# Altium schematic symbol library flatsat_platform.SchLib: 41 symbols (part 1 of 2)
Pins are listed as number, name and electrical type; pins without a type are passive.

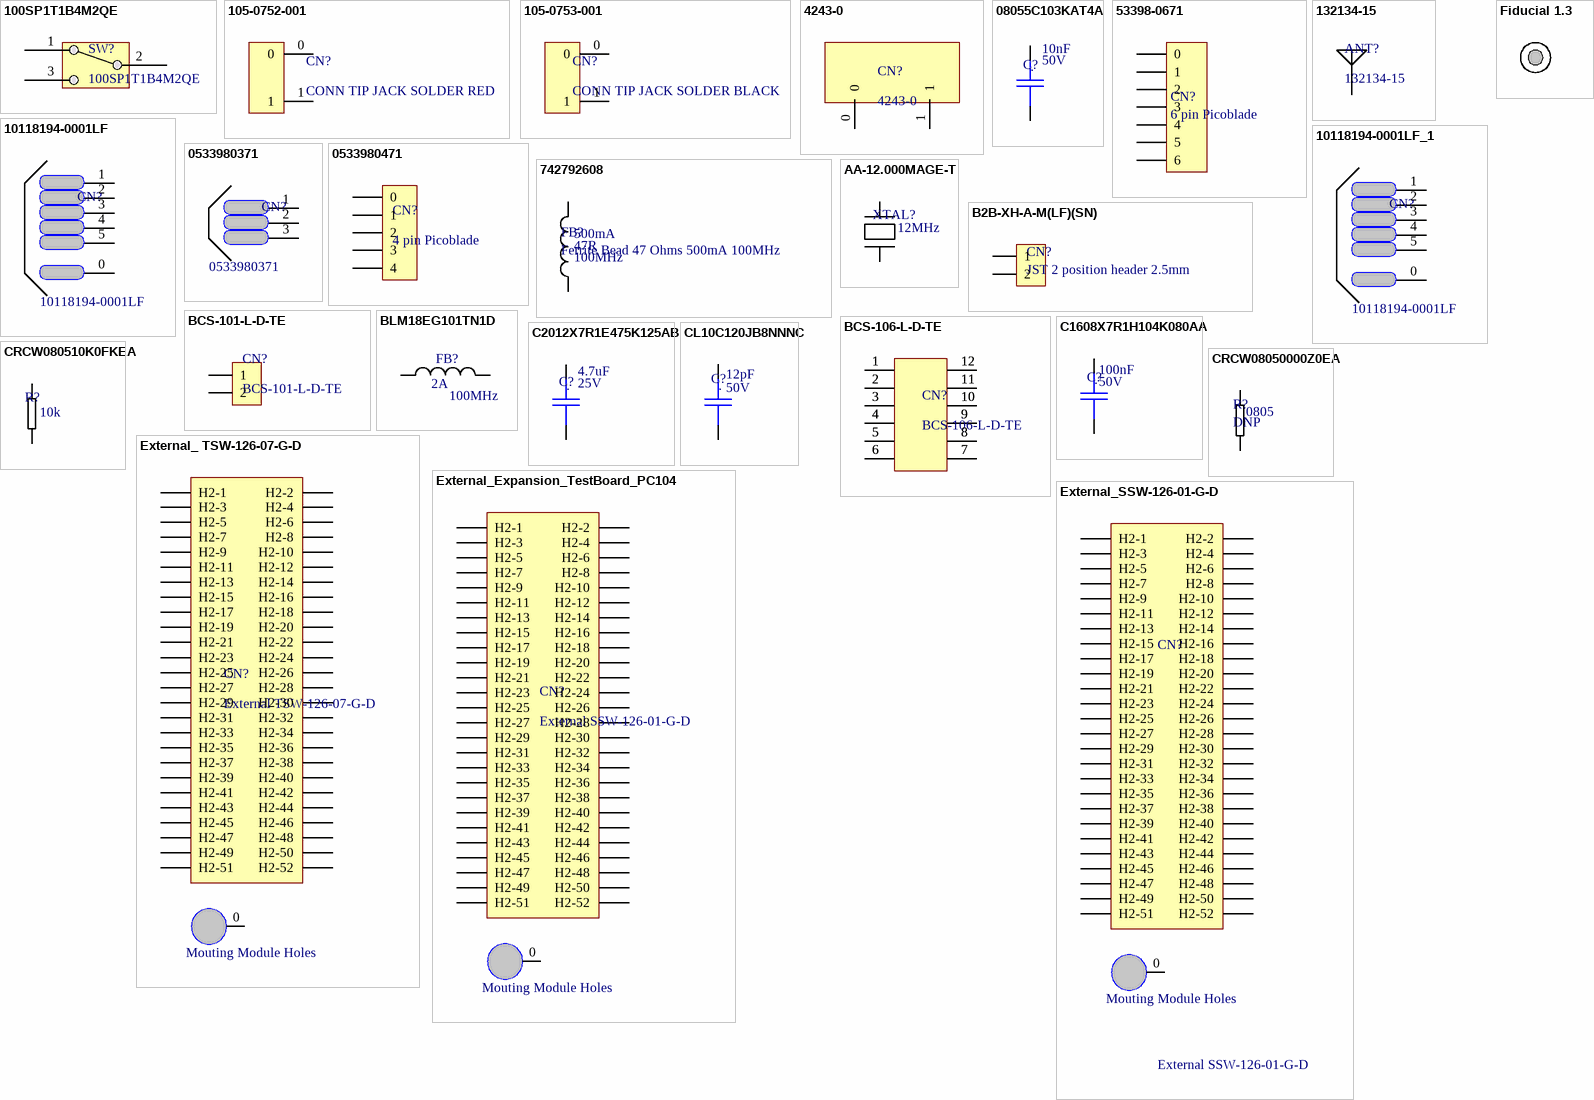
[diagram p0: symbols 100SP1T1B4M2QE to Fiducial 1.3]

## 100SP1T1B4M2QE
designator SW?
E-SWITCH - 100SP1T1B4M2QE - SWITCH, TOGGLE, SPDT, 5A, 120VAC, 28VDC; Actuator Material: Brass,Chrome; Switch Function: On-On; Voltage Rating (AC): 120V; Voltage Rating (DC): 28V; Illumination Type: Non-Illuminated,Illuminated; Actuator Type: Standard Round; Electrical Life: 40000Cycles; Actuator Length: 12.19mm; Manufacturer: *; Mount Type: *; Action: *; Circuit: *; Supplier 1: Digi-Key; Manufacturer Part Number: 100SP1T1B4M2QE; RoHS: Yes; Category: Toggle Switches; Stock 1: 8901; Pricing 1: 1=1.99000, 10=1.77900, 25=1.68240, 50=1.60200, 100=1.52950, 250=1.46512, 500=1.36850, 1000=1.30410 (USD); Mount: Through Hole; Contact Material: Silver; Contact Plating: Silver; Min Operating Temperature: -30°C; Max Operating Temperature: 85°C; Package Quantity: 1; Current Rating: 5A; Packaging: Bulk; Orientation: Vertical; Termination: PC Pin; Throw Configuration: SPDT; Lead Free: Lead Free; ComponentLink1URL: https://datasheet.ciiva.com/24455/t111597-24455739.pdf?src-supplier=Onlinecomponents.com; ComponentLink1Description: https://datasheet.ciiva.com/24455/t111597-24455739.pdf?src-supplier=Onlinecomponents.com; ComponentLink2URL: https://datasheet.ciiva.com/2905/t111597-2905494.pdf?src-supplier=Digi-Key; ComponentLink2Description: https://datasheet.ciiva.com/2905/t111597-2905494.pdf?src-supplier=Digi-Key; Supplier Part Number 1: EG2355-ND; Value: *
footprint Toggle Switch SPDT Through Hole
pins: 1 NC, 2 C, 3 NO

## 105-0752-001
designator CN?, comment CONN TIP JACK SOLDER RED
Conn Test Jack F 1 POS Solder RA Thru-Hole 1 Port; Manufacturer: Bel Cinch; Manufacturer Part Number: 105-0752-001; Body Material: Nylon,Polyamide; Insulation: Mating End Insulated; Current Rating: 5A; Voltage Rating: 2.1kV; Gender: Female; Number of Contacts: 1; Supplier 1: Avnet; RoHS: Yes; Category: Uncategorized; Stock 1: 772; Pricing 1: 500=0.70769, 1000=0.68540, 2000=0.65320, 3000=0.63480, 4000=0.61180 (USD); Mount: Through Hole,Horizontal,Vertical; Color: Red; Contact Plating: Silver,Gold; Contact Material: Aluminium,Copper Alloy; Insulation Material: Nylon; Housing Color: Red; Housing Material: Nylon; Termination: Solder; Packaging: Bulk; Package Quantity: 25; Orientation: Right Angle; Max Current Rating: 5A; Breakdown Voltage: 2.1kV; Operating Supply Voltage: 2.1kV; Number of Ports: 1; Connector Type: Jack; Length: 10.46mm; Depth: 3.96mm; Radiation Hardening: No; REACH SVHC: No SVHC; ComponentLink1URL: https://datasheet.ciiva.com/3111/pi-105-0752-001-3111572.pdf?src-supplier=Avnet; ComponentLink1Description: https://datasheet.ciiva.com/3111/pi-105-0752-001-3111572.pdf?src-supplier=Avnet; ComponentLink2URL: https://datasheet.ciiva.com/1351/1424474-1351366.pdf?src-supplier=Element14; ComponentLink2Description: https://datasheet.ciiva.com/1351/1424474-1351366.pdf?src-supplier=Element14; ComponentLink3URL: https://datasheet.ciiva.com/1378/1756415-1378711.pdf?src-supplier=Newark; ComponentLink3Description: https://datasheet.ciiva.com/1378/1756415-1378711.pdf?src-supplier=Newark; ComponentLink4URL: https://datasheet.ciiva.com/389/pi-1050752001-389576.pdf?src-supplier=Digi-Key; ComponentLink4Description: https://datasheet.ciiva.com/389/pi-1050752001-389576.pdf?src-supplier=Digi-Key; ComponentLink5URL: https://datasheet.ciiva.com/16879/70090304-16879719.pdf?src-supplier=Allied+Electronics; ComponentLink5Description: https://datasheet.ciiva.com/16879/70090304-16879719.pdf?src-supplier=Allied+Electronics; Supplier Part Number 1: 105-0752-001
footprint CONN TIP JACK SOLDER
pins: 0, 1

## 105-0753-001
designator CN?, comment CONN TIP JACK SOLDER BLACK
Black Tip Jack Standard Horizontal Pcb Mount For Diameter .080 Plug Rohs Compliant: Yes; Manufacturer: Bel Cinch; Manufacturer Part Number: 105-0753-001; Body Material: Nylon,Polyamide; Current Rating: 5A; Gender: Female; Insulation: Mating End Insulated; Voltage Rating: 2.1kV; Number of Contacts: 2; Number of Ports: 1; Supplier 1: Avnet; RoHS: Yes; Category: Uncategorized; Pricing 1: 500=0.70769, 1000=0.68540, 2000=0.65320, 3000=0.63480, 4000=0.61180 (USD); Mount: Through Hole,Horizontal,Vertical; Color: Black; Contact Plating: Silver; Insulation Material: Nylon; Contact Material: Aluminium,Copper Alloy; Housing Material: Nylon; Housing Color: Black; Packaging: Bulk; Termination: Solder; Orientation: Right Angle; Package Quantity: 25; Breakdown Voltage: 2.1kV; Max Current Rating: 5A; Operating Supply Voltage: 2.1kV; Length: 10.46mm; Depth: 3.96mm; Radiation Hardening: No; REACH SVHC: No SVHC; ComponentLink1URL: https://datasheet.ciiva.com/1351/187491-1351367.pdf?src-supplier=Element14; ComponentLink1Description: https://datasheet.ciiva.com/1351/187491-1351367.pdf?src-supplier=Element14; ComponentLink2URL: https://datasheet.ciiva.com/389/pi-1050753001-389578.pdf?src-supplier=Digi-Key; ComponentLink2Description: https://datasheet.ciiva.com/389/pi-1050753001-389578.pdf?src-supplier=Digi-Key; ComponentLink3URL: https://datasheet.ciiva.com/30089/pi-105-0753-001-30089024.pdf?src-supplier=Onlinecomponents.com; ComponentLink3Description: https://datasheet.ciiva.com/30089/pi-105-0753-001-30089024.pdf?src-supplier=Onlinecomponents.com; ComponentLink4URL: https://datasheet.ciiva.com/3111/pi-105-0753-001-3111573.pdf?src-supplier=Avnet; ComponentLink4Description: https://datasheet.ciiva.com/3111/pi-105-0753-001-3111573.pdf?src-supplier=Avnet; ComponentLink5URL: https://datasheet.ciiva.com/43572/getdatasheetpartid-685875-43572364.pdf?src-supplier=Verical; ComponentLink5Description: https://datasheet.ciiva.com/43572/getdatasheetpartid-685875-43572364.pdf?src-supplier=Verical; Supplier Part Number 1: 105-0753-001
footprint CONN TIP JACK SOLDER
pins: 0, 1

## 4243-0
designator CN?
POMONA, 4243-0, Binding Post, 4243 Series, 15 A, 60 VDC, Tin Plated Contacts, Brass, Black; Manufacturer: Pomona Electronics; Voltage Rating: 2.5kV; Current Rating: 15A; Voltage Rating (DC): 60V; Voltage Rating (AC): 30V; Insulation: Insulated; Number of Ports: 2; Hole Diameter: 0.1inch; Panel Thickness: 6.35mm; Supplier 1: Digi-Key; Manufacturer Part Number: 4243-0; RoHS: Yes; Category: Connectors; Stock 1: 327; Pricing 1: 1=8.99000, 25=8.54040, 50=8.09100, 100=7.73150 (USD); Mount: Panel; Number of Pins: 1; Contact Plating: Tin,Bright; Contact Material: Brass; Color: Black,Red; Housing Material: Polycarbonate; Housing Color: Black; Body Material: Brass; Insulation Material: Polycarbonate; Package Quantity: 5; Packaging: Bulk; Termination: Turret; Orientation: Straight; Max Current Rating: 15A; Length: 30.23mm; Depth: 11.18mm; REACH SVHC: No SVHC; Lead Free: Lead Free; ComponentLink1URL: https://datasheet.ciiva.com/1453/d4243-1-01-1453890.pdf?src-supplier=Element14; ComponentLink1Description: https://datasheet.ciiva.com/1453/d4243-1-01-1453890.pdf?src-supplier=Element14; ComponentLink2URL: https://datasheet.ciiva.com/16883/70198115-16883751.pdf?src-supplier=Allied+Electronics; ComponentLink2Description: https://datasheet.ciiva.com/16883/70198115-16883751.pdf?src-supplier=Allied+Electronics; ComponentLink3URL: https://datasheet.ciiva.com/30105/d4243-1-02-30105753.pdf?src-supplier=Onlinecomponents.com; ComponentLink3Description: https://datasheet.ciiva.com/30105/d4243-1-02-30105753.pdf?src-supplier=Onlinecomponents.com; Supplier Part Number 1: 501-1126-ND
footprint 4243-0
pins: 0, 1

## 08055C103KAT4A
designator C?, comment Voltage: 50V  Capacitance: 10nF  (hidden comment: 10000 pF, 0805 (2012 metric))
AVX - 08055C103KAT4A - SMD Multilayer Ceramic Capacitor, 10000 pF, 50 V, 0805 [2012 Metric], &#177; 10%, X7R; Manufacturer: Kyocera AVX; Supplier 1: Digi-Key; Supplier Part Number 1: 478-10687-1-ND; Stock 1: 515489; Pricing 1: 1=0.13, 10=0.094, 100=0.044, 500=0.03086, 1000=0.02555, 2500=0.02378, 5000=0.02176 (USD); Mount: Surface Mount; Case/Package: 0805; Number of Pins: 2; Weight: 0.000194oz; Case Code (Imperial): 0805; Case Code (Metric): 2012; Min Operating Temperature: -55°C; Max Operating Temperature: 125°C; Tolerance: 10%; Dielectric: X7R; Packaging: Tape and Reel; Voltage Rating: 50V; Voltage Rating (DC): 50V; Termination: SMD/SMT; Length: 2.01mm; Height: 0.94mm; Depth: 1.25mm; Width: 1.25mm; Radiation Hardening: No; Lead Free: Lead Free; ComponentLink1URL: http://www.mouser.com/ds/2/40/X7RDielectric-777024.pdf?src-supplier=Mouser; ComponentLink1Description: http://www.mouser.com/ds/2/40/X7RDielectric-777024.pdf?src-supplier=Mouser; ComponentLink2URL: http://www.avx.com/docs/Catalogs/cx7r.pdf?src-supplier=Future+Electronics; ComponentLink2Description: http://www.avx.com/docs/Catalogs/cx7r.pdf?src-supplier=Future+Electronics; Supplier 2: Mouser; Supplier Part Number 2: 581-08055C103KAT4A; Stock 2: 88428; Pricing 2: 1=0.12, 10=0.085, 100=0.04, 500=0.028, 1000=0.023, 2500=0.018 (USD); Manufacturer Part Number: 08055C103KAT4A
footprint C0805_MD (Chip Capacitor, Body 2.0x1.3mm, IPC Medium Density)
pins: 1, 2
text: .

## 53398-0671
designator CN?, comment 6 pin Picoblade
1.25mm Pitch PicoBlade™ Header, Surface Mount, Vertical, 6 Circuits; Manufacturer: Molex; Manufacturer Part Number: 53398-0671; Body Plating: Tin; Contact Resistance: 20mR; Voltage Rating: 125V; Current Rating: 1A; Number of Positions: 6; Insulation Resistance: 100MR; Gender: Male; Glow Wire Compliant: Non-compliant; Supplier 1: Digi-Key; Supplier Part Number 1: WM7610DKR-ND; Stock 1: 21086; Pricing 1: 1=1.39, 10=1.26, 100=1.0802, 500=0.90014 (USD); Mount: Surface Mount; Color: Natural; Contact Plating: Tin; Contact Material: Bronze,Tin; Housing Color: Natural; Housing Material: Nylon; Min Operating Temperature: -40°C; Max Operating Temperature: 85°C; Packaging: Tape and Reel; Number of Rows: 1; Voltage Rating (AC): 125V; Package Quantity: 1000; Termination: Solder; Number of Contacts: 6; Working Voltage: 125V; Orientation: Vertical; Number of Circuits: 6; Voltage Rating (DC): 125V; Lead Pitch: 1.25mm; Pitch: 1.25mm; Radiation Hardening: No; REACH SVHC: Unknown; Lead Free: Lead Free; Flammability Rating: UL94 V-0; ComponentLink1URL: https://www.molex.com/pdm_docs/sd/533980671_sd.pdf?src-supplier=Digi-Key; ComponentLink1Description: https://www.molex.com/pdm_docs/sd/533980671_sd.pdf?src-supplier=Digi-Key; Supplier 2: Mouser; Supplier Part Number 2: 538-53398-0671; Stock 2: 26; Pricing 2: 1=1.15, 10=1.01, 100=0.864, 500=0.727, 1000=0.427, 2000=0.374 (USD)
footprint PICO BLADE 0533980671 (CONN HEADER SMD 6POS 1.25MM)
pins: 0, 1, 2, 3, 4, 5, 6

## 132134-15
designator ANT?
RF COAXIAL, SMA, STRAIGHT JACK, PCB; Connector Type:SMA Coaxial; Connector Body Style:Straight Jack; Coaxial Termination:Solder; Impedance:50ohm; Coaxial Cable Types:-; Contact Material:Brass; Contact Plating:Gold Plated Contacts; Body Material: Brass; Body Plating: Gold; Dielectric Material: PTFE; Connector Type: SMA,Socket; Max Frequency: 12.4GHz; Polarity: Standard; Impedance: 50R; Mating Cycles: 500; Mount Type: *; Manufacturer: *; Supplier 1: Digi-Key; Manufacturer Part Number: 132134-15; RoHS: Yes; Category: RF / Coaxial Connectors; Stock 1: 25238; Pricing 1: 1=9.73000, 10=9.30600, 25=8.46000, 50=8.03700, 100=7.82550, 250=6.97952, 500=6.55650, 1000=5.79510, 2500=5.49900 (USD); Mount: Surface Mount,Through Hole; Case/Package: SMA; Housing Color: Gold; Contact Material: Copper; Contact Plating: Gold; Min Operating Temperature: -65°C; Max Operating Temperature: 165°C; Termination: Solder; Orientation: Straight; Package Quantity: 1; Fastening Type: Threaded; Packaging: Bulk; ComponentLink1URL: https://datasheet.ciiva.com/646/132134-15-646945.pdf?src-supplier=Digi-Key; ComponentLink1Description: https://datasheet.ciiva.com/646/132134-15-646945.pdf?src-supplier=Digi-Key; ComponentLink2URL: https://datasheet.ciiva.com/24241/132134-15-customer-drawing-24241080.pdf?src-supplier=Mouser; ComponentLink2Description: https://datasheet.ciiva.com/24241/132134-15-customer-drawing-24241080.pdf?src-supplier=Mouser; Value: *; Supplier Part Number 1: ACX1962-ND
footprint 132134-15
pins: 1

## 10118194-0001LF
designator CN?
CONN USB MICRO B RECPT SMT R/A; Manufacturer: FCI; N of Positions: 5; Pitch: 0.65mm; Mount Type: PTH; Supplier 1: Digi-Key; Supplier 2: Farnell; Supplier 3: Mouser; Supplier 4: Newark; Supplier Part Number 1: 609-4618-1-ND; Supplier Part Number 2: 1645325; Supplier Part Number 3: 649-10118194-0001LF; Supplier Part Number 4: 67T2260; Value: 10118194-0001LF
footprint MICRO USB B 90GRAUS
pins: 0, 1, 2, 3, 4, 5

## 10118194-0001LF_1
designator CN?, comment 10118194-0001LF
CONN USB MICRO B RECPT SMT R/A; Manufacturer: FCI; N of Positions: 5; Pitch: 0.65mm; Mount Type: PTH; Supplier 1: Digi-Key; Supplier 2: Farnell; Supplier 3: Mouser; Supplier 4: Newark; Supplier Part Number 1: 609-4618-1-ND; Supplier Part Number 2: 1645325; Supplier Part Number 3: 649-10118194-0001LF; Supplier Part Number 4: 67T2260; Value: 10118194-0001LF
footprint MICRO USB B 90GRAUS
pins: 0, 1, 2, 3, 4, 5

## 0533980371
designator CN?
CONN HEADER SMD 3POS 1.25MM; Manufacturer: Molex; N of Positions: 3; Pitch: 1.25mm; Mount Type: SMD; Value: 0533980371
footprint PICO BLADE 0533980371
pins: 1, 2, 3

## 0533980471
designator CN?, comment 4 pin Picoblade
Connector Header Surface Mount 4 position 0.049" (1.25mm); Manufacturer: Molex; Manufacturer Part Number: 53398-0471; N of Positions: 4; Value: 0533980471; Body Plating: Tin; Gender: Male; Current Rating: 1A; Voltage Rating: 125V; Contact Resistance: 20mR; Insulation Resistance: 100MR; Glow Wire Compliant: Non-compliant; Pitch: 1.25mm; Mount Type: SMD; Supplier 1: Digi-Key; Supplier Part Number 1: WM7608CT-ND; Stock 1: 21236; Pricing 1: 1=1.19, 10=1.044, 100=0.901, 500=0.73716 (USD); Mount: Surface Mount; Contact Plating: Tin; Contact Material: Bronze,Tin,Brass; Color: Natural; Housing Color: Natural; Housing Material: Nylon; Min Operating Temperature: -40°C; Max Operating Temperature: 85°C; Number of Rows: 1; Packaging: Tape and Reel; Number of Positions: 4; Termination: Solder; Package Quantity: 1000; Voltage Rating (AC): 125V; Number of Contacts: 4; Working Voltage: 125V; Orientation: Vertical; Number of Circuits: 4; Voltage Rating (DC): 125V; Lead Pitch: 1.25mm; Radiation Hardening: No; Flammability Rating: UL94 V-0; REACH SVHC: Unknown; Lead Free: Lead Free; ComponentLink1URL: http://www.mouser.com/ds/2/276/0533980471_PCB_HEADERS-171069.pdf?src-supplier=Mouser; ComponentLink1Description: http://www.mouser.com/ds/2/276/0533980471_PCB_HEADERS-171069.pdf?src-supplier=Mouser; ComponentLink2URL: http://www.jameco.com/Jameco/Products/ProdDS/1932627.pdf?src-supplier=Jameco; ComponentLink2Description: http://www.jameco.com/Jameco/Products/ProdDS/1932627.pdf?src-supplier=Jameco; ComponentLink3URL: https://www.distrelec.biz/Web/Downloads/46/_e/gf116833-116846_e.pdf?mime=application%2Fpdf&src-supplier=Distrelec; ComponentLink3Description: https://www.distrelec.biz/Web/Downloads/46/_e/gf116833-116846_e.pdf?mime=application%2Fpdf&src-supplier=Distrelec; ComponentLink4URL: http://www.molex.com/webdocs/datasheets/pdf/en-us/0533980471_PCB_HEADERS.pdf?src-supplier=Element14; ComponentLink4Description: http://www.molex.com/webdocs/datasheets/pdf/en-us/0533980471_PCB_HEADERS.pdf?src-supplier=Element14; ComponentLink5URL: http://www.farnell.com/datasheets/1867381.pdf?src-supplier=Element14; ComponentLink5Description: http://www.farnell.com/datasheets/1867381.pdf?src-supplier=Element14; ComponentLink6URL: http://uk.rs-online.com/webdocs/13c4/0900766b813c4500.pdf?src-supplier=RSComponents; ComponentLink6Description: http://uk.rs-online.com/webdocs/13c4/0900766b813c4500.pdf?src-supplier=RSComponents; ComponentLink7URL: http://www.molex.com/webdocs/datasheets/pdf/en-us/0533980471_PCB_HEADERS.pdf?src-supplier=Farnell; ComponentLink7Description: http://www.molex.com/webdocs/datasheets/pdf/en-us/0533980471_PCB_HEADERS.pdf?src-supplier=Farnell; ComponentLink8URL: http://www.farnell.com/datasheets/2697809.pdf?src-supplier=Element14; ComponentLink8Description: http://www.farnell.com/datasheets/2697809.pdf?src-supplier=Element14; ComponentLink9URL: http://www.molex.com/webdocs/datasheets/pdf/en-us/0533980471_PCB_HEADERS.pdf?src-supplier=Avnet; ComponentLink9Description: http://www.molex.com/webdocs/datasheets/pdf/en-us/0533980471_PCB_HEADERS.pdf?src-supplier=Avnet; ComponentLink10URL: http://www.molex.com/webdocs/datasheets/pdf/en-us/0533980471_PCB_HEADERS.pdf?src-supplier=Avnet+Europe; ComponentLink10Description: http://www.molex.com/webdocs/datasheets/pdf/en-us/0533980471_PCB_HEADERS.pdf?src-supplier=Avnet+Europe; Supplier 2: Mouser; Supplier Part Number 2: 538-53398-0471; Stock 2: 43680; Pricing 2: 1=0.98, 10=0.832, 100=0.716, 500=0.6, 1000=0.391, 2000=0.342 (USD)
footprint PICO BLADE 0533980471
pins: 0, 1, 2, 3, 4

## 742792608
designator FB?, comment Ferrite Bead 47 Ohms 500mA 100MHz  Impedance: 47R  Test Frequency: 100MHz  Current Rating: 500mA
WURTH ELEKTRONIK   742792608   FERRITE BEAD, 0.1 OHM, 0.5A, 0603; Manufacturer: Wurth Electronics; Resistance: 100mR; Inductance: 1H; Tolerance: 25%; Number of Lines: 1; Supplier 1: Digi-Key; Supplier Part Number 1: 732-1596-1-ND; Stock 1: 969; Pricing 1: 1=0.17, 50=0.168, 100=0.155, 500=0.148, 1000=0.141, 2000=0.134 (USD); Mount: Surface Mount; Case/Package: SMD/SMT; Weight: 0.000141oz; Core Material: Ferrite; Case Code (Metric): 1608; Case Code (Imperial): 0603; Material: Ferrite; Min Operating Temperature: -55°C; Max Operating Temperature: 125°C; Package Quantity: 1; Packaging: Tape and Reel; Max Current Rating: 500mA; DC Resistance (DCR): 100mR; Max DC Current: 500mA; Termination: SMD/SMT; Length: 1.6mm; Height: 0.8mm; Width: 0.8mm; Depth: 0.8mm; REACH SVHC: Unknown; Lead Free: Lead Free; ComponentLink1URL: http://katalog.we-online.de/pbs/datasheet/742792608.pdf?src-supplier=Digi-Key; ComponentLink1Description: http://katalog.we-online.de/pbs/datasheet/742792608.pdf?src-supplier=Digi-Key; ComponentLink2URL: http://www.farnell.com/datasheets/2290671.pdf?src-supplier=Farnell; ComponentLink2Description: http://www.farnell.com/datasheets/2290671.pdf?src-supplier=Farnell; ComponentLink3URL: http://documents.rs-components.com/techlib://itc_doclist_GB.htm?stockno=6693986&src-supplier=RSComponents; ComponentLink3Description: http://documents.rs-components.com/techlib://itc_doclist_GB.htm?stockno=6693986&src-supplier=RSComponents; ComponentLink4URL: http://www.farnell.com/datasheets/1696033.pdf?src-supplier=Element14; ComponentLink4Description: http://www.farnell.com/datasheets/1696033.pdf?src-supplier=Element14; ComponentLink5URL: http://www.mouser.com/ds/2/445/742792608-538481.pdf?src-supplier=Mouser; ComponentLink5Description: http://www.mouser.com/ds/2/445/742792608-538481.pdf?src-supplier=Mouser; ComponentLink6URL: http://www.farnell.com/datasheets/2290671.pdf?src-supplier=Newark; ComponentLink6Description: http://www.farnell.com/datasheets/2290671.pdf?src-supplier=Newark; Supplier 2: Mouser; Supplier Part Number 2: 710-742792608; Stock 2: 6414; Pricing 2: 1=0.18, 10=0.172, 25=0.172, 50=0.168, 100=0.155, 250=0.155 (USD); Manufacturer Part Number: 742792608
footprint L0603
pins: 1, 2

## AA-12.000MAGE-T
designator XTAL?, comment Frequency: 12MHz  (hidden comment: 12.000MHz 12pF)
Crystals 12.000MHz 30ppm 12pF -40C to 85C; Manufacturer: TXC; Manufacturer Part Number: AA-12.000MAGE-T; ESR (Equivalent Series Resistance): 100R; Frequency Stability: 50ppm; Supplier 1: Digi-Key; Supplier Part Number 1: 887-1656-1-ND; Stock 1: 2398; Pricing 1: 1=0.83, 10=0.734, 50=0.6858, 100=0.6061, 500=0.5742 (USD); Mount: Surface Mount; Case/Package: SMD/SMT; Number of Pins: 2; Min Operating Temperature: -40°C; Max Operating Temperature: 85°C; Package Quantity: 1000; Tolerance: 30ppm; Packaging: Tape and Reel; Frequency Tolerance: 30ppm; Termination: SMD/SMT; Length: 0.197inch; Height: 0.053inch; Width: 3.2mm; Ratings: AEC-Q200; REACH SVHC: No SVHC; ComponentLink1URL: http://www.txccrystal.com/images/pdf/number-crystal-automotive.pdf?src-supplier=Digi-Key; ComponentLink1Description: http://www.txccrystal.com/images/pdf/number-crystal-automotive.pdf?src-supplier=Digi-Key; ComponentLink2URL: http://www.farnell.com/datasheets/1811860.pdf?src-supplier=Element14; ComponentLink2Description: http://www.farnell.com/datasheets/1811860.pdf?src-supplier=Element14; Supplier 2: Mouser; Supplier Part Number 2: 717-AA-12.000MAGE-T; Stock 2: 4856; Pricing 2: 1=0.83, 10=0.734, 50=0.685, 100=0.606, 500=0.574, 1000=0.435 (USD)
footprint TXC 7A Series
pins: 1, 2

## B2B-XH-A-M(LF)(SN)
designator CN?, comment JST 2 position header 2.5mm
CONN HEADER TOP 2POS 2.5MM GRN; Manufacturer Part Number: B2B-XH-A-M(LF)(SN); Number of Positions: 2; Connector Type: Male Pin; Pitch: 0.098inch; Supplier 1: Digi-Key; Supplier Part Number 1: 455-2879-ND; Manufacturer: JST; Stock 1: 5564; Pricing 1: 1=0.17, 10=0.157, 100=0.0966, 500=0.07998, 1000=0.06999, 5000=0.05999, 10000=0.05832 (USD); Mount: Through Hole; Color: Natural; Contact Plating: Tin; Packaging: Bulk; Number of Rows: 1; Termination: Press-Fit; Fastening Type: Detent; Package Quantity: 1000; ComponentLink1Description: http://www.jst-mfg.com/product/pdf/eng/eXH.pdf; ComponentLink1URL: http://www.jst-mfg.com/product/pdf/eng/eXH.pdf
footprint B2B-XH-A-M(LF)(SN)
pins: 1, 2

## BCS-101-L-D-TE
designator CN?
Conn Socket Strip SKT 2 POS Solder ST Thru-Hole Automotive; Manufacturer: Samtec; Gender: Female; Max Current Rating: 5.9A; Contact Resistance: 10mR; Connector Type: Receptacle; Number of Positions: 2; Max Voltage Rating (AC): 475V; Pitch: 0.1inch; Supplier 1: Digi-Key; Manufacturer Part Number: BCS-101-L-D-TE; RoHS: Yes; Category: Connectors; Stock 1: 2244; Pricing 1: 1=0.40000, 10=0.38100, 25=0.32680, 50=0.27780, 100=0.26700, 250=0.23972, 500=0.22882 (USD); Mount: Through Hole; Housing Color: Black; Contact Plating: Gold; Contact Material: Bronze; Color: Black; Housing Material: Polymer; Min Operating Temperature: -55°C; Max Operating Temperature: 125°C; Orientation: Straight; Packaging: Rail/Tube; Number of Rows: 2; Termination: Solder; Number of Contacts: 2; Length: 2.54mm; Width: 5.08mm; Row Spacing: 0.1inch; Depth: 5.08mm; Radiation Hardening: No; Lead Free: Lead Free; ComponentLink1URL: https://datasheet.ciiva.com/413/bcs-1xx-xxx-x-xx-xxx-mkt-413546.pdf?src-supplier=Digi-Key; ComponentLink1Description: https://datasheet.ciiva.com/413/bcs-1xx-xxx-x-xx-xxx-mkt-413546.pdf?src-supplier=Digi-Key; Supplier Part Number 1: SAM1008-01-ND
footprint CONN RCPT 2POS GOLD PCB
pins: 1, 2

## BCS-106-L-D-TE
designator CN?
CONN RCPT 12POS 0.1 GOLD PCB; Manufacturer: Samtec; Number of Contacts: 12; Gender: Receptacle; Max Current Rating: 5.9A; Contact Resistance: 10mR; Max Voltage Rating (AC): 475V; Pitch: 2.54mm; Row Spacing: 0.1inch; Supplier 1: Digi-Key; Manufacturer Part Number: BCS-106-L-D-TE; RoHS: Yes; Category: Connectors; Stock 1: 7411; Pricing 1: 1=1.77000, 10=1.60200, 25=1.50360, 50=1.43820, 100=1.37290, 250=1.24216, 500=1.14408 (USD); Mount: Through Hole; Contact Plating: Gold; Contact Material: Bronze; Color: Black; Housing Color: Black; Housing Material: Polymer; Min Operating Temperature: -55°C; Max Operating Temperature: 125°C; Number of Rows: 2; Termination: Solder; Packaging: Rail/Tube; Connector Type: Receptacle; Number of Positions: 12; Orientation: Vertical; Length: 15.24mm; Depth: 5.08mm; Width: 5.08mm; Radiation Hardening: No; REACH SVHC: No SVHC; Lead Free: Lead Free; ComponentLink1URL: https://datasheet.ciiva.com/16706/bcs-16706444.pdf?src-supplier=Avnet+Europe; ComponentLink1Description: https://datasheet.ciiva.com/16706/bcs-16706444.pdf?src-supplier=Avnet+Europe; ComponentLink2URL: https://datasheet.ciiva.com/413/bcs-1xx-xxx-x-xx-xxx-mkt-413758.pdf?src-supplier=Digi-Key; ComponentLink2Description: https://datasheet.ciiva.com/413/bcs-1xx-xxx-x-xx-xxx-mkt-413758.pdf?src-supplier=Digi-Key; Supplier Part Number 1: SAM1008-06-ND
footprint BCS-106-L-D-TE
pins: 1, 1, 2, 2, 3, 3, 4, 4, 5, 5, 6, 6, 7, 7, 8, 8, 9, 9, 10, 10, 11, 11, 12, 12

## BLM18EG101TN1D
designator FB?  Test Frequency: 100MHz  Current Rating: 2A  (hidden comment: BLM18EG101TN1D)
FERRITE BEAD 100 OHM 0603 1LN; Manufacturer: Murata; Material: Ferrite,Steel; Tolerance: 25%; DC Resistance (DCR): 45mR; Number of Lines: 1; Impedance: 100R; Supplier 1: Digi-Key; Supplier Part Number 1: 490-5978-1-ND; Stock 1: 64347; Pricing 1: 1=0.23, 10=0.175, 25=0.1452, 50=0.1252, 100=0.1126, 250=0.09508, 500=0.08508, 1000=0.07257 (USD); Case/Package: 0603; Number of Pins: 2; Core Material: Ferrite; Case Code (Metric): 1608; Case Code (Imperial): 0603; Contact Plating: Tin,Matte; Min Operating Temperature: -55°C; Max Operating Temperature: 125°C; Max DC Current: 2A; Package Quantity: 1; Packaging: Tape and Reel; Max Current Rating: 2A; Termination: SMD/SMT; Number of Circuits: 1; Length: 1.6mm; Height: 0.8mm; Depth: 0.8mm; Width: 0.8mm; REACH SVHC: No SVHC; Lead Free: Lead Free; ComponentLink1URL: https://www.murata.com/en-global/products/productdata/8796733767710/S0580E.pdf?src-supplier=Digi-Key; ComponentLink1Description: https://www.murata.com/en-global/products/productdata/8796733767710/S0580E.pdf?src-supplier=Digi-Key; ComponentLink2URL: http://www.murata.com/products/catalog/pdf/c31e.pdf?src-supplier=Element14; ComponentLink2Description: http://www.murata.com/products/catalog/pdf/c31e.pdf?src-supplier=Element14; ComponentLink3URL: http://search.murata.co.jp/Ceramy/image/img/PDF/ENG/L0110S0101BLM18E.pdf?src-supplier=Avnet; ComponentLink3Description: http://search.murata.co.jp/Ceramy/image/img/PDF/ENG/L0110S0101BLM18E.pdf?src-supplier=Avnet; ComponentLink4URL: http://search.murata.co.jp/Ceramy/image/img/PDF/ENG/L0110S0101BLM18E.pdf?src-supplier=Avnet+Europe; ComponentLink4Description: http://search.murata.co.jp/Ceramy/image/img/PDF/ENG/L0110S0101BLM18E.pdf?src-supplier=Avnet+Europe; ComponentLink5URL: http://search.murata.co.jp/Ceramy/image/img/PDF/ENG/L0110S0101BLM18E.pdf?src-supplier=Future+Electronics; ComponentLink5Description: http://search.murata.co.jp/Ceramy/image/img/PDF/ENG/L0110S0101BLM18E.pdf?src-supplier=Future+Electronics; ComponentLink6URL: http://uk.rs-online.com/webdocs/11b5/0900766b811b5866.pdf?src-supplier=RSComponents; ComponentLink6Description: http://uk.rs-online.com/webdocs/11b5/0900766b811b5866.pdf?src-supplier=RSComponents; ComponentLink7URL: http://www.produktinfo.conrad.com/datenblaetter/1100000-1199999/001172263-da-01-en-DROSSEL_0603_100R_1_6X0_8MM_4000ST.pdf?src-supplier=Conrad; ComponentLink7Description: http://www.produktinfo.conrad.com/datenblaetter/1100000-1199999/001172263-da-01-en-DROSSEL_0603_100R_1_6X0_8MM_4000ST.pdf?src-supplier=Conrad; ComponentLink8URL: http://www.produktinfo.conrad.com/datenblaetter/1100000-1199999/001171697-da-01-en-CHIP_DROSSEL0603_100R_2000MA_1_6X0_8MM.pdf?src-supplier=Conrad; ComponentLink8Description: http://www.produktinfo.conrad.com/datenblaetter/1100000-1199999/001171697-da-01-en-CHIP_DROSSEL0603_100R_2000MA_1_6X0_8MM.pdf?src-supplier=Conrad; Supplier 2: Mouser; Supplier Part Number 2: 81-BLM18EG101TN1D; Stock 2: 10695; Pricing 2: 1=0.22, 10=0.125, 100=0.095, 500=0.081, 1000=0.072, 4000=0.063 (USD); Manufacturer Part Number: BLM18EG101TN1D
footprint L0603
pins: 1, 2

## C1608X7R1H104K080AA
designator C?, comment Voltage Rating: 50V  Capacitance: 100nF  (hidden comment: 0.1 uF, 0603 (1608 metric))
TDK - C1608X7R1H104K080AA - SMD Multilayer Ceramic Capacitor, 0.1 µF, 50 V, 0603 [1608 Metric], ± 10%, X7R, C Series; Supplier 1: Digi-Key; Supplier Part Number 1: 445-1314-1-ND; Manufacturer: TDK; Stock 1: 513759; Pricing 1: 1=0.12, 10=0.088, 100=0.0413, 500=0.02896, 1000=0.02397 (USD); Mount: Surface Mount; Case/Package: 0603; Number of Pins: 2; Weight: 7.1E-05oz; Case Code (Imperial): 0603; Case Code (Metric): 1608; Dielectric Material: Ceramic; Min Operating Temperature: -55°C; Max Operating Temperature: 125°C; Tolerance: 10%; Dielectric: X7R; Packaging: Tape and Reel; Package Quantity: 1; Termination: SMD/SMT; Voltage: 50V; Voltage Rating (DC): 50V; Composition: Ceramic; Length: 1.6mm; Height: 0.8mm; Depth: 0.8mm; Width: 0.8mm; Thickness: 0.037inch; Radiation Hardening: No; REACH SVHC: No SVHC; Lead Free: Lead Free; ComponentLink1URL: https://product.tdk.com/info/en/catalog/spec/mlccspec_commercial_general_midvoltage_en.pdf?src-supplier=Digi-Key; ComponentLink1Description: https://product.tdk.com/info/en/catalog/spec/mlccspec_commercial_general_midvoltage_en.pdf?src-supplier=Digi-Key; ComponentLink2URL: http://uk.rs-online.com/webdocs/13d1/0900766b813d1103.pdf?src-supplier=RSComponents; ComponentLink2Description: http://uk.rs-online.com/webdocs/13d1/0900766b813d1103.pdf?src-supplier=RSComponents; ComponentLink3URL: http://www.tdk.co.jp/tefe02/e412_c.pdf?src-supplier=Avnet+Europe; ComponentLink3Description: http://www.tdk.co.jp/tefe02/e412_c.pdf?src-supplier=Avnet+Europe; ComponentLink4URL: http://www.farnell.com/datasheets/2792994.pdf?src-supplier=Farnell; ComponentLink4Description: http://www.farnell.com/datasheets/2792994.pdf?src-supplier=Farnell; ComponentLink5URL: http://www.farnell.com/datasheets/1744655.pdf?src-supplier=Element14; ComponentLink5Description: http://www.farnell.com/datasheets/1744655.pdf?src-supplier=Element14; Supplier 2: Mouser; Supplier Part Number 2: 810-C1608X7R1H104K; Stock 2: 34512; Pricing 2: 1=0.12, 10=0.088, 100=0.041, 500=0.029, 1000=0.024, 4000=0.017, 8000=0.016, 24000=0.013, 48000=0.011 (USD); Manufacturer Part Number: C1608X7R1H104K080AA
footprint C0603_MD (Chip Capacitor, Body 1.6x0.8mm, IPC Medium Density)
pins: 1, 2
text: .

## C2012X7R1E475K125AB
designator C?, comment Voltage Rating: 25V  Capacitance: 4.7uF  (hidden comment: 4.7 uF, 0802 (2012 metric))
Ceramic Capacitor SMD Multilayer, 0805 [2012 Metric], 4.7 uF, 25 V,  10%, X7R, C Series; Manufacturer: TDK; Manufacturer Part Number: C2012X7R1E475K125AB; Supplier 1: Digi-Key; Supplier Part Number 1: 445-5972-1-ND; Stock 1: 196988; Pricing 1: 1=0.48, 10=0.339, 100=0.223, 500=0.16518, 1000=0.1404 (USD); Mount: Surface Mount; Case/Package: 0805; Weight: 0.000194oz; Case Code (Metric): 2012; Case Code (Imperial): 0805; Dielectric Material: Ceramic; Min Operating Temperature: -55°C; Max Operating Temperature: 125°C; Tolerance: 10%; Dielectric: X7R; Packaging: Tape and Reel; Voltage Rating (DC): 25V; Termination: SMD/SMT; Package Quantity: 2000; Composition: Ceramic; Voltage: 25V; Length: 2mm; Height: 1.25mm; Width: 0.049inch; Depth: 1.25mm; Thickness: 0.057inch; Radiation Hardening: No; Lead Free: Lead Free; REACH SVHC: No SVHC; ComponentLink1URL: http://www.mouser.com/ds/2/400/lcc_commercial_general_en-837201.pdf?src-supplier=Mouser; ComponentLink1Description: http://www.mouser.com/ds/2/400/lcc_commercial_general_en-837201.pdf?src-supplier=Mouser; ComponentLink2URL: https://product.tdk.com/info/en/catalog/spec/mlccspec_commercial_general_midvoltage_en.pdf?src-supplier=Digi-Key; ComponentLink2Description: https://product.tdk.com/info/en/catalog/spec/mlccspec_commercial_general_midvoltage_en.pdf?src-supplier=Digi-Key; ComponentLink3URL: http://www.farnell.com/datasheets/1796654.pdf?src-supplier=Newark; ComponentLink3Description: http://www.farnell.com/datasheets/1796654.pdf?src-supplier=Newark; ComponentLink4URL: http://www.tdk.co.jp/tefe02/e412_c.pdf?src-supplier=Avnet+Europe; ComponentLink4Description: http://www.tdk.co.jp/tefe02/e412_c.pdf?src-supplier=Avnet+Europe; Supplier 2: Mouser; Supplier Part Number 2: 810-C2012X7R1E475K; Stock 2: 141636; Pricing 2: 1=0.54, 10=0.382, 100=0.251, 500=0.186, 1000=0.158, 2000=0.121 (USD)
footprint C0805_MD (Chip Capacitor, Body 2.0x1.3mm, IPC Medium Density)
pins: 1, 2
text: .

## CL10C120JB8NNNC
designator C?, comment Voltage: 50V  Capacitance: 12pF  (hidden comment: 12 pF, 0603 (1608 metric))
Cap Ceramic 12pF 50VDC C0G 5% SMD 0603 Paper T/R; Manufacturer: Samsung; Manufacturer Part Number: CL10C120JB8NNNC; Temperature Coefficient: 300ppm/°C; Supplier 1: Digi-Key; Supplier Part Number 1: 1276-1254-1-ND; Stock 1: 64675; Pricing 1: 1=0.1, 10=0.045, 100=0.0201, 500=0.01436, 1000=0.01128 (USD); Mount: Surface Mount; Case/Package: 0603; Case Code (Metric): 1608; Case Code (Imperial): 0603; Material: Ceramic; Contact Plating: Tin; Min Operating Temperature: -55°C; Max Operating Temperature: 125°C; Dielectric: C0G; Voltage Rating (DC): 50V; Voltage Rating: 50V; Package Quantity: 1; Packaging: Tape and Reel; Length: 1.6mm; Height: 0.8mm; Depth: 0.8mm; Width: 0.031inch; Thickness: 0.035inch; Radiation Hardening: No; Lead Free: Lead Free; ComponentLink1URL: https://media.digikey.com/pdf/Data%20Sheets/Samsung%20PDFs/CL_Series_MLCC_ds.pdf?src-supplier=Digi-Key; ComponentLink1Description: https://media.digikey.com/pdf/Data%20Sheets/Samsung%20PDFs/CL_Series_MLCC_ds.pdf?src-supplier=Digi-Key; ComponentLink2URL: https://www.verical.com/server-webapp/html/getDatasheet?partID=640658&src-supplier=Verical; ComponentLink2Description: https://www.verical.com/server-webapp/html/getDatasheet?partID=640658&src-supplier=Verical; ComponentLink3URL: https://produktinfo.conrad.com/datenblaetter/450000-474999/457317-da-01-en-VS_KONDENSATOR_0603.pdf?src-supplier=Conrad; ComponentLink3Description: https://produktinfo.conrad.com/datenblaetter/450000-474999/457317-da-01-en-VS_KONDENSATOR_0603.pdf?src-supplier=Conrad; Tolerance: 5%
footprint C0603_MD (Chip Capacitor, Body 1.6x0.8mm, IPC Medium Density)
pins: 1, 2
text: .

## CRCW080510K0FKEA
designator R?, comment value 10k  (hidden comment: 10k ohms, 0805 (2012 metric))
RES 10.0K OHM 1/8W 1% 0805 SMD; Manufacturer: Vishay Dale; Manufacturer Part Number: CRCW080510K0FKEA; Resistance: 10kR; Temperature Coefficient: 100ppm/°C; Power Rating: 125mW; Voltage Rating: 150V; Mount Type: SMD; Tolerance: 1%; Supplier 1: Newark; Supplier 2: Mouser; Supplier 3: Digi-Key; Supplier 4: Allied; Supplier 5: Farnell; Supplier Part Number 1: 52K9795; Supplier Part Number 2: 71-CRCW0805-10K-E3; Supplier Part Number 3: 541-10.0KCCT-ND; Supplier Part Number 4: 70201192; Supplier Part Number 5: 1632457; Supplier 6: Digi-Key; Supplier Part Number 6: 541-10.0KCDKR-ND; Stock 6: 1354479; Pricing 6: 1=0.1, 10=0.062, 100=0.0254, 1000=0.01142, 2500=0.00991 (USD); Case/Package: 0805; Weight: 0.000194oz; Contact Plating: Tin; Case Code (Imperial): 0805; Case Code (Metric): 2012; Min Operating Temperature: -55°C; Max Operating Temperature: 155°C; Composition: Thick Film; Packaging: Tape and Reel; Package Quantity: 5000; Military Standard: Not; Termination: SMD/SMT; Voltage Rating (DC): 150V; Length: 2mm; Height: 0.45mm; Width: 1.25mm; Depth: 1.25mm; Radiation Hardening: No; Lead Free: Lead Free; REACH SVHC: Unknown; ComponentLink1URL: http://www.mouser.com/ds/2/427/dcrcwe3-109170.pdf?src-supplier=Mouser; ComponentLink1Description: http://www.mouser.com/ds/2/427/dcrcwe3-109170.pdf?src-supplier=Mouser; ComponentLink2URL: http://uk.rs-online.com/webdocs/0d98/0900766b80d98b26.pdf?src-supplier=RSComponents; ComponentLink2Description: http://uk.rs-online.com/webdocs/0d98/0900766b80d98b26.pdf?src-supplier=RSComponents; ComponentLink3URL: http://www.alliedelec.com/m/d/0c934d6939ccefa68dbe0b96d821c8cf.pdf?src-supplier=Allied+Electronics; ComponentLink3Description: http://www.alliedelec.com/m/d/0c934d6939ccefa68dbe0b96d821c8cf.pdf?src-supplier=Allied+Electronics; ComponentLink4URL: http://www.vishay.com/docs/20035/dcrcwe3.pdf?src-supplier=Avnet+Asia; ComponentLink4Description: http://www.vishay.com/docs/20035/dcrcwe3.pdf?src-supplier=Avnet+Asia; ComponentLink5URL: http://www.vishay.com/docs/20035/dcrcwe3.pdf?src-supplier=Avnet+Europe; ComponentLink5Description: http://www.vishay.com/docs/20035/dcrcwe3.pdf?src-supplier=Avnet+Europe; ComponentLink6URL: http://www.farnell.com/datasheets/2310790.pdf?src-supplier=Element14; ComponentLink6Description: http://www.farnell.com/datasheets/2310790.pdf?src-supplier=Element14; ComponentLink7URL: http://www.vishay.com/docs/20035/dcrcwe3.pdf?src-supplier=Avnet; ComponentLink7Description: http://www.vishay.com/docs/20035/dcrcwe3.pdf?src-supplier=Avnet; ComponentLink8URL: http://www.vishay.com/docs/20035/dcrcwe3.pdf?src-supplier=Future+Electronics; ComponentLink8Description: http://www.vishay.com/docs/20035/dcrcwe3.pdf?src-supplier=Future+Electronics; Stock 2: 101022; Pricing 2: 1=0.1, 10=0.062, 100=0.025, 1000=0.01, 5000=0.007, 10000=0.006, 25000=0.005 (USD); Power: 1/8W
footprint R0805_MD (Chip Resistor, Body 2.0x1.3mm, IPC Medium Density)
pins: 1, 2

## CRCW08050000Z0EA
designator R?, comment DNP  Case/Package: 0805
VISHAY - CRCW08050000Z0EA - SMD Chip Resistor, Jumper, 0805 [2012 Metric], 0 ohm, CRCW e3 Series, 150 V, Thick Film, 125 mW; Power Rating: 125mW; Voltage Rating: 150V; Tolerance: 1%; Temperature Coefficient: 100ppm/°C; Resistance: 0mR; Supplier 1: Digi-Key; Supplier Part Number 1: 541-0.0ACT-ND; Manufacturer: Vishay; Stock 1: 487981; Pricing 1: 1=0.1, 10=0.04, 25=0.0288, 50=0.022, 100=0.0162, 250=0.01236, 500=0.0099, 1000=0.00729 (USD); Weight: 0.000194oz; Contact Plating: Tin,Lead; Case Code (Imperial): 0805; Case Code (Metric): 2012; Min Operating Temperature: -55°C; Max Operating Temperature: 155°C; Composition: Thick Film; Termination: SMD/SMT; Packaging: Tape and Reel; Package Quantity: 1; Number of Terminations: 2; Military Standard: Not; Max Power Dissipation: 125mW; Voltage Rating (DC): 150V; Features: Automotive AEC-Q200; Height: 0.45mm; Width: 1.25mm; Depth: 1.25mm; Radiation Hardening: No; Lead Free: Lead Free; REACH SVHC: Unknown; ComponentLink1URL: http://www.vishay.com/docs/20035/dcrcwe3.pdf?src-supplier=Avnet+Europe; ComponentLink1Description: http://www.vishay.com/docs/20035/dcrcwe3.pdf?src-supplier=Avnet+Europe; ComponentLink2URL: http://www.vishay.com/docs/20035/dcrcwe3.pdf?src-supplier=Distrelec; ComponentLink2Description: http://www.vishay.com/docs/20035/dcrcwe3.pdf?src-supplier=Distrelec; ComponentLink3URL: http://www.vishay.com/docs/20035/dcrcwe3.pdf?src-supplier=Mouser; ComponentLink3Description: http://www.vishay.com/docs/20035/dcrcwe3.pdf?src-supplier=Mouser; ComponentLink4URL: http://uk.rs-online.com/webdocs/0d98/0900766b80d98b26.pdf?src-supplier=RSComponents; ComponentLink4Description: http://uk.rs-online.com/webdocs/0d98/0900766b80d98b26.pdf?src-supplier=RSComponents; ComponentLink5URL: http://www.vishay.com/docs/20035/dcrcwe3.pdf?src-supplier=Future+Electronics; ComponentLink5Description: http://www.vishay.com/docs/20035/dcrcwe3.pdf?src-supplier=Future+Electronics; ComponentLink6URL: http://www.vishay.com/docs/20035/dcrcwe3.pdf?src-supplier=Allied+Electronics; ComponentLink6Description: http://www.vishay.com/docs/20035/dcrcwe3.pdf?src-supplier=Allied+Electronics; ComponentLink7URL: http://www.vishay.com/docs/20035/dcrcwe3.pdf?src-supplier=Digi-Key; ComponentLink7Description: http://www.vishay.com/docs/20035/dcrcwe3.pdf?src-supplier=Digi-Key; ComponentLink8URL: http://www.farnell.com/datasheets/2310790.pdf?src-supplier=Element14; ComponentLink8Description: http://www.farnell.com/datasheets/2310790.pdf?src-supplier=Element14; Supplier 2: Mouser; Supplier Part Number 2: 71-CRCW0805-0-E3; Stock 2: 496700; Pricing 2: 1=0.1, 10=0.024, 100=0.01, 1000=0.007, 5000=0.004, 10000=0.004 (USD); Manufacturer Part Number: CRCW08050000Z0EA; Length: 2mm
footprint R0805_MD (Chip Resistor, Body 2.0x1.3mm, IPC Medium Density)
pins: 1, 2

## External_ TSW-126-07-G-D
designator CN?, comment External TSW-126-07-G-D
SAMTEC         TSW-126-07-G-D             Board-To-Board Connector, Vertical, TSW Series, 52 Contacts, Header, 2.54 mm, Through Hole, 2 Rows; Gender: Male; Number of Contacts: 52; Connector Type: Male Pin; Pitch: 0.1inch; Supplier 1: Newark; Manufacturer: Samtec; Manufacturer Part Number: TSW-126-07-G-D; RoHS: Yes; Category: Headers and Wire Housings; Stock 1: 100; Pricing 1: 1=5.05000, 10=4.65000, 25=4.27000, 50=4.08000, 100=3.88000, 250=3.40000, 500=3.30000 (USD); Mount: Through Hole; Contact Plating: Gold; Contact Material: Bronze; Housing Material: Plastic; Color: Black; Housing Color: Black; Number of Rows: 2; Termination: Solder; Package Quantity: 1; Packaging: Bulk; Number of Positions: 52; Length: 66mm; Width: 5.08mm; Height: 2.54mm; Row Spacing: 0.1inch; Contact Mating Length: 0.23inch; Lead Free: Lead Free; REACH SVHC: No SVHC; ComponentLink1URL: http://www.farnell.com/datasheets/2060109.pdf?src-supplier=Farnell; ComponentLink1Description: http://www.farnell.com/datasheets/2060109.pdf?src-supplier=Farnell; ComponentLink2URL: http://www.farnell.com/datasheets/2060109.pdf?src-supplier=Newark; ComponentLink2Description: http://www.farnell.com/datasheets/2060109.pdf?src-supplier=Newark; ComponentLink3URL: http://suddendocs.samtec.com/prints/tsw-xxx-xx-x-x-xx-xxx-footprint.pdf?src-supplier=Digi-Key; ComponentLink3Description: http://suddendocs.samtec.com/prints/tsw-xxx-xx-x-x-xx-xxx-footprint.pdf?src-supplier=Digi-Key; Supplier Part Number 1: 12P2847
footprint external_TSW-126-07-G-D (CONN RCPT 52POS 0.1 GOLD PCB)
pins: 0 Mouting, H2-1, H2-2, H2-3, H2-4, H2-5, H2-6, H2-7, H2-8, H2-9, H2-10, H2-11, H2-12, H2-13, H2-14, H2-15, H2-16, H2-17, H2-18, H2-19, H2-20, H2-21, H2-22, H2-23, H2-24, H2-25, H2-26, H2-27, H2-28, H2-29, H2-30, H2-31, H2-32, H2-33, H2-34, H2-35, H2-36, H2-37, H2-38, H2-39, H2-40, H2-41, H2-42, H2-43, H2-44, H2-45, H2-46, H2-47, H2-48, H2-49, H2-50, H2-51, H2-52
text: Mouting Module Holes

## External_Expansion_TestBoard_PC104
designator CN?, comment External SSW-126-01-G-D
Conn Socket Strip SKT 52 POS 2.54mm Solder ST Thru-Hole; Manufacturer: Samtec; Gender: Receptacle; Number of Contacts: 52; Connector Type: Receptacle,Socket; Mating Cycles: 100; Max Voltage Rating (AC): 550V; Max Current Rating: 5.5A; Contact Resistance: 10mR; Row Spacing: 0.1inch; Supplier 1: Mouser; Manufacturer Part Number: SSW-126-01-G-D; RoHS: Yes; Category: Headers and Wire Housings; Stock 1: 72; Pricing 1: 1=6.95000, 10=6.17000, 25=5.80000, 100=5.30000, 250=4.64000, 500=4.22000 (USD); Mount: Through Hole; Contact Plating: Gold; Contact Material: Bronze; Color: Black; Housing Color: Black; Housing Material: Polymer; Min Operating Temperature: -55°C; Max Operating Temperature: 125°C; Termination: Solder; Number of Rows: 2; Number of Positions: 52; Packaging: Bulk; Orientation: Straight; Length: 66.55mm; Pitch: 2.54mm; Width: 4.95mm; Depth: 4.95mm; Lead Free: Lead Free; REACH SVHC: No SVHC; ComponentLink1URL: https://datasheet.ciiva.com/749/ssw-1xx-xx-xxx-x-xx-xxx-xx-mkt-749805.pdf?src-supplier=Digi-Key; ComponentLink1Description: https://datasheet.ciiva.com/749/ssw-1xx-xx-xxx-x-xx-xxx-xx-mkt-749805.pdf?src-supplier=Digi-Key; Supplier Part Number 1: 200-SSW12601GD
footprint external_SSW-126-01-G-D _testboard (CONN RCPT 52POS 0.1 GOLD PCB)
pins: 0 Mouting, H2-1, H2-2, H2-3, H2-4, H2-5, H2-6, H2-7, H2-8, H2-9, H2-10, H2-11, H2-12, H2-13, H2-14, H2-15, H2-16, H2-17, H2-18, H2-19, H2-20, H2-21, H2-22, H2-23, H2-24, H2-25, H2-26, H2-27, H2-28, H2-29, H2-30, H2-31, H2-32, H2-33, H2-34, H2-35, H2-36, H2-37, H2-38, H2-39, H2-40, H2-41, H2-42, H2-43, H2-44, H2-45, H2-46, H2-47, H2-48, H2-49, H2-50, H2-51, H2-52
text: Mouting Module Holes

## External_SSW-126-01-G-D
designator CN?, comment External SSW-126-01-G-D
52 Position Receptacle Connector  Through Hole; Manufacturer: Samtec; Number of Contacts: 52; Connector Type: Receptacle,Socket; Mating Cycles: 100; Max Current Rating: 5.5A; Contact Resistance: 10mR; Max Voltage Rating (AC): 550V; Pitch: 2.54mm; Row Spacing: 0.1inch; Partnumber: SSW-126-01-G-D; Supplier 1: Mouser; Supplier Part Number 1: 200-SSW12601GD; Stock 1: 86; Pricing 1: 1=6.95, 10=5.8, 100=4.93, 250=4.4, 500=4.05, 1000=3.8 (USD); Mount: Through Hole; Contact Plating: Gold; Contact Material: Bronze; Color: Black; Housing Color: Black; Housing Material: Polymer; Min Operating Temperature: -55°C; Max Operating Temperature: 125°C; Number of Rows: 2; Termination: Solder; Gender: Receptacle; Packaging: Bulk; Number of Positions: 52; Orientation: Straight; Length: 66.55mm; Width: 4.95mm; Depth: 4.95mm; Lead Free: Lead Free; REACH SVHC: No SVHC; ComponentLink1URL: http://suddendocs.samtec.com/prints/ssw-1xx-xx-xxx-x-xx-xxx-xx-mkt.pdf?src-supplier=Digi-Key; ComponentLink1Description: http://suddendocs.samtec.com/prints/ssw-1xx-xx-xxx-x-xx-xxx-xx-mkt.pdf?src-supplier=Digi-Key; Supplier 2: Digi-Key; Supplier Part Number 2: SAM1208-26-ND; Stock 2: 0; Pricing 2: 1=6.69, 10=6.415, 25=5.8576, 50=5.5786, 100=5.2996, 250=4.74176, 500=4.46284 (USD); Manufacturer Part Number: SSW-126-01-G-D
footprint external_SSW-126-01-G-D (CONN RCPT 52POS 0.1 GOLD PCB)
pins: 0 Mouting, H2-1, H2-2, H2-3, H2-4, H2-5, H2-6, H2-7, H2-8, H2-9, H2-10, H2-11, H2-12, H2-13, H2-14, H2-15, H2-16, H2-17, H2-18, H2-19, H2-20, H2-21, H2-22, H2-23, H2-24, H2-25, H2-26, H2-27, H2-28, H2-29, H2-30, H2-31, H2-32, H2-33, H2-34, H2-35, H2-36, H2-37, H2-38, H2-39, H2-40, H2-41, H2-42, H2-43, H2-44, H2-45, H2-46, H2-47, H2-48, H2-49, H2-50, H2-51, H2-52
text: Mouting Module Holes

## Fiducial 1.3
designator FD?  (value not drawn)  (no BOM)
Fiducial 1.3mm
footprint Fiducial 1.3mm

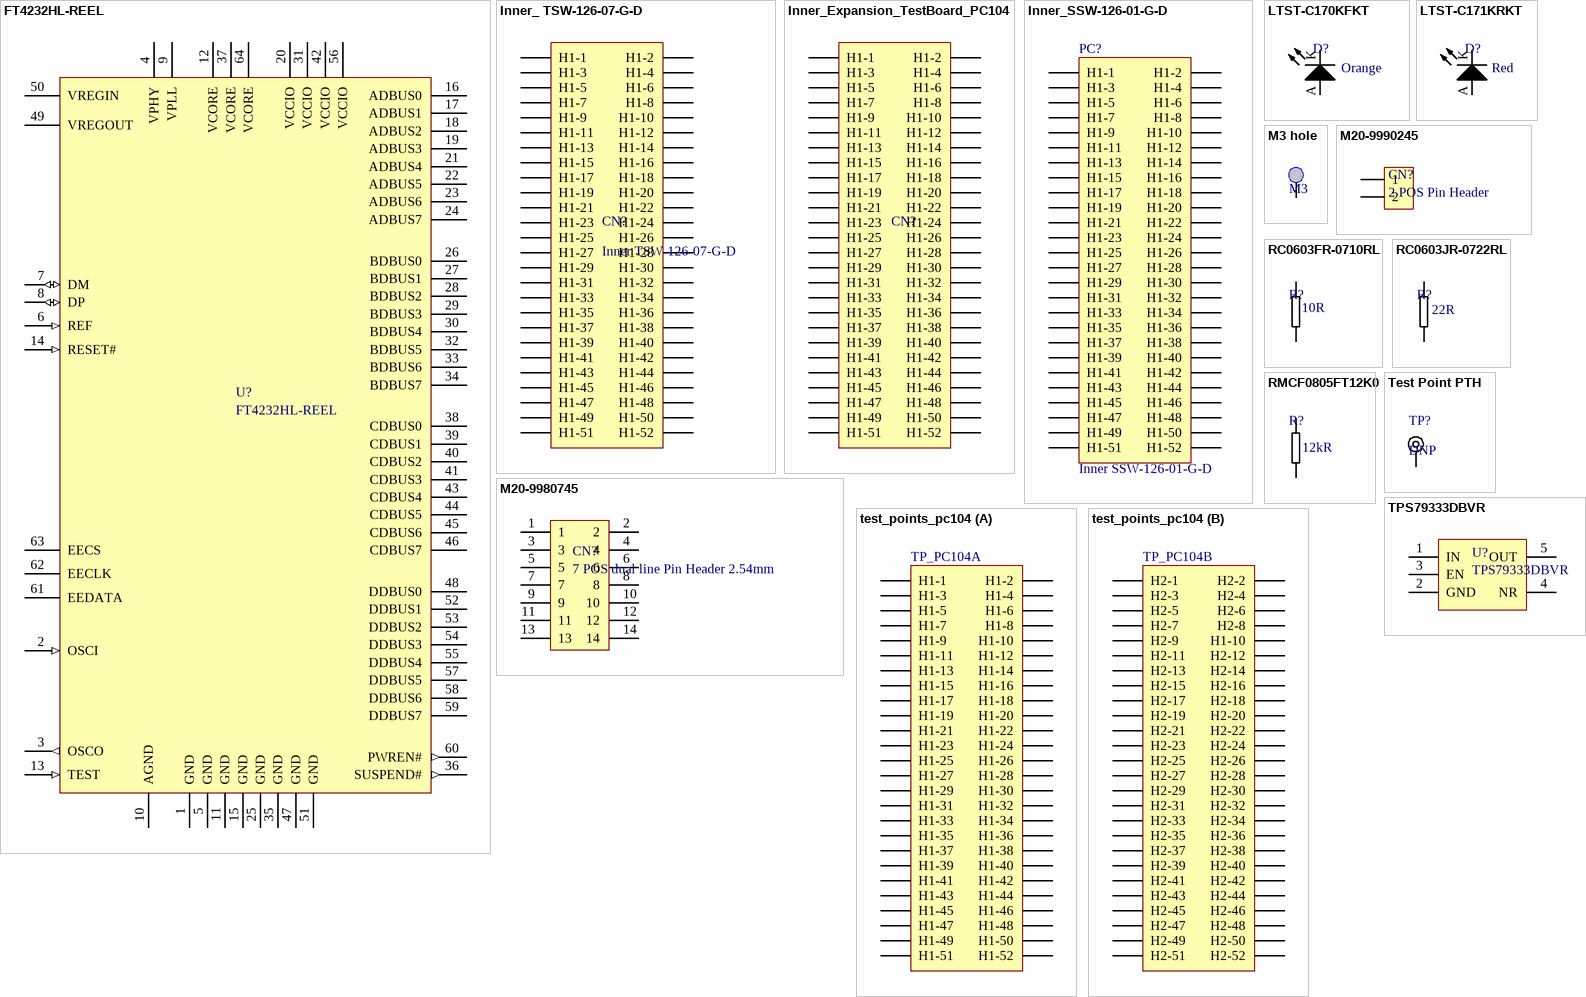
[diagram p1: symbols FT4232HL-REEL to TPS79333DBVR]

## FT4232HL-REEL
designator U?
FTDI - FT4232HL-REEL - USB-UART/MPSSE, 4232, QUAD, 64LQFP; Number of Channels: 1; Data Rate: 480Mbps; Operating Supply Voltage: 3.3V; Max Supply Voltage: 3.63V; Min Supply Voltage: 1.62V; Operating Supply Current: 70mA; Number of Transceivers: 4; ESD Protection: Yes; Interface: UART; Supplier 1: Digi-Key; Supplier Part Number 1: 768-1026-1-ND; Manufacturer: FTDI; Stock 1: 18748; Pricing 1: 1=8.3, 10=8.09, 50=7.46, 100=7.14, 500=6.88006 (USD); Mount: Surface Mount; Case/Package: LQFP; Number of Pins: 64; Weight: 0.012088oz; Min Operating Temperature: -40°C; Max Operating Temperature: 85°C; Packaging: Tape and Reel; Package Quantity: 1000; Dual Supply Voltage: 3.3V; Length: 10.1mm; Height: 1.4mm; Width: 10.1mm; Radiation Hardening: No; Lead Free: Lead Free; ComponentLink1URL: http://www.ftdichip.com/Support/Documents/AppNotes/AN_128_User_Guide_For_FT4232H_Factory%20test%20utility.pdf?src-supplier=Digi-Key; ComponentLink1Description: http://www.ftdichip.com/Support/Documents/AppNotes/AN_128_User_Guide_For_FT4232H_Factory%20test%20utility.pdf?src-supplier=Digi-Key; ComponentLink2URL: http://www.alliedelec.com/images/products/datasheets/bm/FTDI/70403916.pdf?src-supplier=Allied+Electronics; ComponentLink2Description: http://www.alliedelec.com/images/products/datasheets/bm/FTDI/70403916.pdf?src-supplier=Allied+Electronics; ComponentLink3URL: http://www.ftdichip.com/Support/Documents/DataSheets/ICs/DS_FT4232H.pdf?src-supplier=Future+Electronics; ComponentLink3Description: http://www.ftdichip.com/Support/Documents/DataSheets/ICs/DS_FT4232H.pdf?src-supplier=Future+Electronics; ComponentLink4URL: https://www.verical.com/server-webapp/html/getDatasheet?partID=643215&src-supplier=Verical; ComponentLink4Description: https://www.verical.com/server-webapp/html/getDatasheet?partID=643215&src-supplier=Verical; ComponentLink5URL: http://datasheet.iiic.cc/ftdi/FT4232HL-REEL.pdf?src-supplier=IIIC; ComponentLink5Description: http://datasheet.iiic.cc/ftdi/FT4232HL-REEL.pdf?src-supplier=IIIC; Supplier 2: Mouser; Supplier Part Number 2: 895-FT4232HL; Stock 2: 21282; Pricing 2: 1=8.3, 25=8.09, 50=7.46, 100=7.14, 500=6.88, 1000=6.08 (USD); Manufacturer Part Number: FT4232HL-REEL
footprint LQFP-64 (64-Pin LQFP 0.5 mm Pitch)
pins: 1 GND, 2 OSCI (in), 3 OSCO (out), 4 VPHY (power), 5 GND, 6 REF (in), 7 DM (io), 8 DP (io), 9 VPLL (power), 10 AGND, 11 GND, 12 VCORE (power), 13 TEST (in), 14 RESET# (in), 15 GND, 16 ADBUS0, 17 ADBUS1, 18 ADBUS2, 19 ADBUS3, 20 VCCIO (power), 21 ADBUS4, 22 ADBUS5, 23 ADBUS6, 24 ADBUS7, 25 GND, 26 BDBUS0, 27 BDBUS1, 28 BDBUS2, 29 BDBUS3, 30 BDBUS4, 31 VCCIO (power), 32 BDBUS5, 33 BDBUS6, 34 BDBUS7, 35 GND, 36 SUSPEND# (out), 37 VCORE (power), 38 CDBUS0, 39 CDBUS1, 40 CDBUS2, 41 CDBUS3, 42 VCCIO (power), 43 CDBUS4, 44 CDBUS5, 45 CDBUS6, 46 CDBUS7, 47 GND, 48 DDBUS0, 49 VREGOUT, 50 VREGIN, 51 GND, 52 DDBUS1, 53 DDBUS2, 54 DDBUS3, 55 DDBUS4, 56 VCCIO (power), 57 DDBUS5, 58 DDBUS6, 59 DDBUS7, 60 PWREN# (out), 61 EEDATA, 62 EECLK, 63 EECS, 64 VCORE (power)